# Altium schematic symbol library transistor_nmos.SchLib: 10 symbols
Pins are listed as number, name and electrical type; pins without a type are passive.

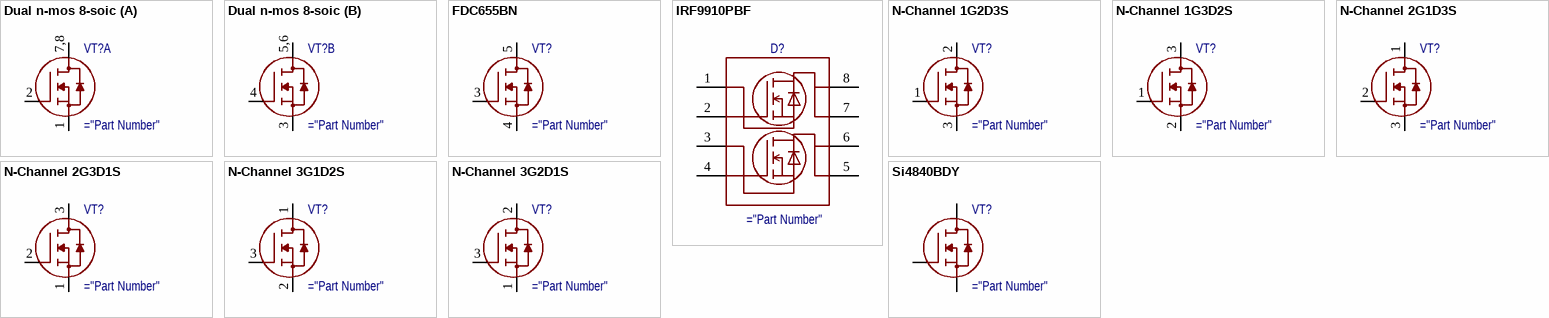
[diagram p0: symbols Dual n-mos 8-soic to Si4840BDY]

## Dual n-mos 8-soic
designator VT?
Dual N-mos 8-SOIC
part A pins: 1 C, 2 C, 7,8 C
part B pins: 3 C, 4 C, 5,6 C

## FDC655BN
designator VT?
N-MOSFET
pins: 1 C, 2 C, 3 C, 4 C, 5 C, 6 C

## IRF9910PBF
designator D?
Dual N-MOSFET
pins: 1 C, 2 C, 3 C, 4 C, 5 C, 6 C, 7 C, 8 C

## N-Channel 1G2D3S
designator VT?
N-MOSFET
pins: 1 C, 2 C, 3 C

## N-Channel 1G3D2S
designator VT?
N-MOSFET
pins: 1 C, 2 C, 3 C

## N-Channel 2G1D3S
designator VT?
N-MOSFET
pins: 1 C, 2 C, 3 C

## N-Channel 2G3D1S
designator VT?
N-MOSFET
pins: 1 C, 2 C, 3 C

## N-Channel 3G1D2S
designator VT?
N-MOSFET
pins: 1 C, 2 C, 3 C

## N-Channel 3G2D1S
designator VT?
N-MOSFET
pins: 1 C, 2 C, 3 C

## Si4840BDY
designator VT?
N-MOSFET
pins: 1,2,3 C, 4 C, 5,6,7,8 C